# Altium schematic symbol library Schlib1.SchLib: 49 symbols
Pins are listed as number, name and electrical type; pins without a type are passive.

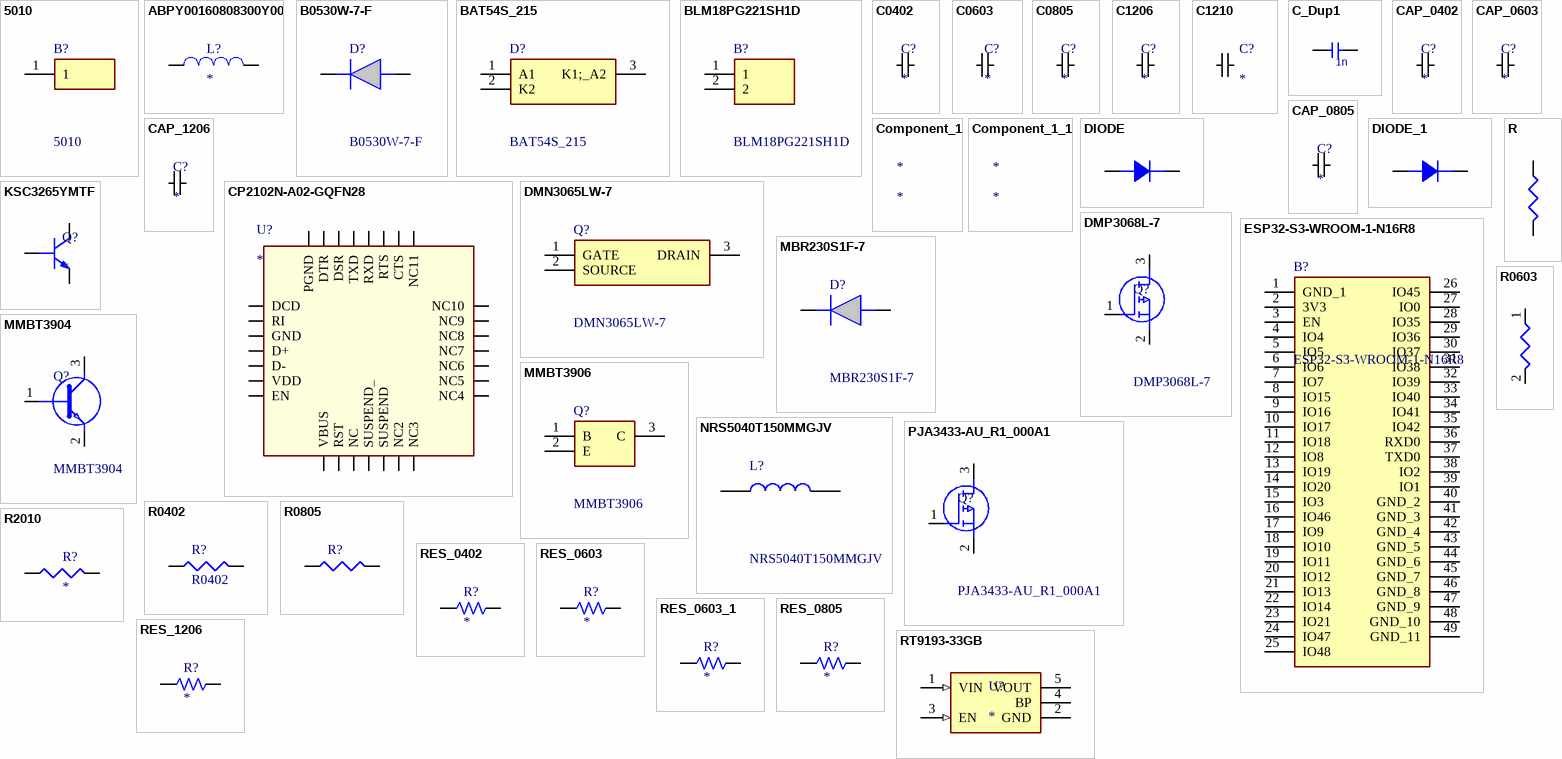
[diagram p0: symbols 5010 to RT9193-33GB]

## 5010
designator B?
KEYSTONE - 5010 - TEST POINT, PCB, THROUGH HOLE; Manufacturer_Name: Keystone Electronics; Geometry.Height: 8.28mm; Manufacturer_Part_Number: 5010; Mouser Part Number: 534-5010; Mouser Price/Stock: https://www.mouser.co.uk/ProductDetail/Keystone-Electronics/5010?qs=qOqV1E1P08SzD%252BWfk1wMXQ%3D%3D; Arrow Part Number: 5010; Arrow Price/Stock: https://www.arrow.com/en/products/5010/keystone-electronics?region=europe; Datasheet Link: http://www.farnell.com/datasheets/1703983.pdf
footprint 5010
pins: 1

## ABPY00160808300Y00
designator L?
Ferrite Beads 30Ohms RDC=0.03Ohms 3000mA AEC-Q200; Impedance @ 100MHz: 30
footprint ABPY00160808300Y00 (Chip Inductor, 2-Leads, Body 1.60x0.80mm, IPC Medium Density)
pins: 1, 2

## B0530W-7-F
designator D?
Diode Schottky 30V 0.5A 2Pin SOD123 Diodes Inc B0530W-7-F, SMT Schottky Diode, 30V 500mA, 2-Pin SOD-123; Manufacturer_Name: Diodes Incorporated; Geometry.Height: 1.45mm; Manufacturer_Part_Number: B0530W-7-F; Mouser Part Number: 621-B0530W-F; Mouser Price/Stock: https://www.mouser.co.uk/ProductDetail/Diodes-Incorporated/B0530W-7-F?qs=r3fpmNqpta3e9fGIJHX0aw%3D%3D; Arrow Part Number: B0530W-7-F; Arrow Price/Stock: https://www.arrow.com/en/products/b0530w-7-f/diodes-incorporated; Datasheet Link: https://www.diodes.com/assets/Datasheets/ds30139.pdf
footprint SOD3716X145N
pins: 1 K, 2 A

## BAT54S_215
designator D?
Schottky barrier diode,BAT54S 0.2A 30V NXP BAT54S,215, Dual SMT Schottky Diode, Series, 30V 200mA, 5ns, 3-Pin TO-236AB; Manufacturer_Name: Nexperia; Geometry.Height: 1.1mm; Manufacturer_Part_Number: BAT54S,215; Mouser Part Number: 771-BAT54S-T/R; Mouser Price/Stock: https://www.mouser.co.uk/ProductDetail/Nexperia/BAT54S215?qs=me8TqzrmIYVOaf3j7zH0Wg%3D%3D; Arrow Part Number: BAT54S,215; Arrow Price/Stock: https://www.arrow.com/en/products/bat54s215/nexperia?region=nac; Datasheet Link: https://assets.nexperia.com/documents/data-sheet/BAT54S.pdf
footprint SOT95P230X110-3N
pins: 1 A1, 2 K2, 3 K1;_A2

## BLM18PG221SH1D
designator B?
Murata Power Solutions Ferrite Bead (Chip Bead), 1.6 x 0.8 x 0.8mm (1608), 220 impedance at 100 MHz; Manufacturer_Name: Murata Electronics; Geometry.Height: 0.95mm; Manufacturer_Part_Number: BLM18PG221SH1D; Mouser Part Number: 81-BLM18PG221SH1D; Mouser Price/Stock: https://www.mouser.co.uk/ProductDetail/Murata-Electronics/BLM18PG221SH1D?qs=%2F%252BYoplLUB5jh6aLSaRqm2A%3D%3D; Arrow Part Number: BLM18PG221SH1D; Arrow Price/Stock: https://www.arrow.com/en/products/blm18pg221sh1d/murata-manufacturing?region=nac; Datasheet Link: http://www.murata.com/~/media/webrenewal/support/library/catalog/products/emc/emifil/c31e.ashx?la=en-gb
footprint BLM18SP221SN1B
pins: 1, 2

## C0402
designator C?
Voltage Rating: *; Tolerance: *; Package Size: *
footprint C0402
pins: 1, 2

## C0603
designator C?
footprint Cap_0603 (Chip Capacitor, 2-Leads, Body 1.80x1.00mm, IPC Medium Density)
pins: 1, 2

## C0805
designator C?
Voltage Rating: *; Tolerance: *; Package Size: *
footprint Cap_0805 (Chip Capacitor, 2-Leads, Body 2.00x1.25mm, IPC Medium Density)
pins: 1, 2

## C1206
designator C?
Voltage Rating: *; Tolerance: *; Package Size: *
footprint Cap_1206
pins: 1, 2

## C1210
designator C?
footprint C1210
pins: 1, 2

## C_Dup1
designator C?, comment 1n
TC2: 0; DIST: FLAT; PSpiceTemplate: C^@REFDES %1 %2 ?TOLERANCE|C^@REFDES| @VALUE ?IC/IC=@IC/ TC=@TC1,@TC2 ?TOLERANCE|\n.model C^@REFDES CAP C=1 DEV=@TOLERANCE%|; VOLTAGE: CMAX; CURRENT: CIMAX; KNEE: CBMAX; SLOPE: CSMAX; MAX_TEMP: CTMAX; TC1: 0; Value: 1n
footprint RAD/CK05
simulation model C_Dup1
pins: 1, 2

## CAP_0402
designator C?
Voltage Rating: *; Tolerance: *; Package Size: CAP_0402
footprint Cap_0402
footprint Cap_0402
pins: 1, 2

## CAP_0603
designator C?
Voltage Rating: *; Tolerance: *; Package Size: CAP_0603
footprint Cap_0603 (Chip Capacitor, 2-Leads, Body 1.80x1.00mm, IPC Medium Density)
pins: 1, 2

## CAP_0805
designator C?
Voltage Rating: *; Tolerance: *; Package Size: CAP_0805; Capacitance: *
footprint Cap_0805 (Chip Capacitor, 2-Leads, Body 2.00x1.25mm, IPC Medium Density)
pins: 1, 2

## CAP_1206
designator C?
Voltage Rating: *; Tolerance: *; Package Size: CAP_1206
footprint Cap_0402
pins: 1, 2

## Component_1
designator *

## Component_1_1
designator *

## CP2102N-A02-GQFN28
designator U?
USB Interface IC USBXpress - USB to UART Bridge
footprint CP2102N-A02-GQFN28 (QFN, 28-Leads, Body 5.00x5.00mm, Pitch 0.50mm, Thermal Pad 3.35x3.35mm, IPC Medium Density)
pins: 1 DCD, 2 RI, 3 GND, 4 D+, 5 D-, 6 VDD, 7 EN, 8 VBUS, 9 RST, 10 NC, 11 SUSPEND_, 12 SUSPEND, 13 NC2, 14 NC3, 15 NC4, 16 NC5, 17 NC6, 18 NC7, 19 NC8, 20 NC9, 21 NC10, 22 NC11, 23 CTS, 24 RTS, 25 RXD, 26 TXD, 27 DSR, 28 DTR, 29 PGND

## DIODE
designator D?
pins: 1 K, 2 A

## DIODE_1
designator D?
pins: 1 K, 2 A

## DMN3065LW-7
designator Q?
Diodes Inc DMN3065LW-7 N-channel MOSFET Transistor, 4 A, 30 V, 3-Pin SOT-323; Manufacturer_Name: Diodes Incorporated; Geometry.Height: 1mm; Manufacturer_Part_Number: DMN3065LW-7; Mouser Part Number: 621-DMN3065LW7; Mouser Price/Stock: https://www.mouser.co.uk/ProductDetail/Diodes-Incorporated/DMN3065LW-7?qs=JtunSoW0QGGjls1HwhS7gQ%3D%3D; Arrow Part Number: DMN3065LW-7; Arrow Price/Stock: https://www.arrow.com/en/products/dmn3065lw-7/diodes-incorporated; Datasheet Link: https://www.diodes.com/assets/Datasheets/DMN3065LW.pdf
footprint SOT65P210X100-3N
pins: 1 GATE, 2 SOURCE, 3 DRAIN

## DMP3068L-7
designator Q?
MOSFET 30V P-Ch Enh Mode 72mOhm -10V -3.9A; Manufacturer_Name: Diodes Incorporated; Geometry.Height: 1.15mm; Manufacturer_Part_Number: DMP3068L-7; Mouser Part Number: 621-DMP3068L-7; Mouser Price/Stock: https://www.mouser.co.uk/ProductDetail/Diodes-Incorporated/DMP3068L-7?qs=BvpHGKeVh3rIffE3x2yGSw%3D%3D; Arrow Part Number: DMP3068L-7; Arrow Price/Stock: https://www.arrow.com/en/products/dmp3068l-7/diodes-incorporated; Datasheet Link: https://www.diodes.com/assets/Datasheets/DMP3068L.pdf
footprint SOT96P240X115-3N
pins: 1 G, 2 S, 3 D

## ESP32-S3-WROOM-1-N16R8
designator B?
Multiprotocol Modules SMD Module, ESP32-S3R8, 3.3V, 8 MB Octal PSRAM Die, 16 MB Quad SPI Flash, PCB Antenna; Manufacturer_Name: Espressif Systems; Geometry.Height: 3.25mm; Manufacturer_Part_Number: ESP32-S3-WROOM-1-N16R8; Mouser Part Number: 356-ESP32S3WRM1N16R8; Mouser Price/Stock: https://www.mouser.co.uk/ProductDetail/Espressif-Systems/ESP32-S3-WROOM-1-N16R8?qs=Li%252BoUPsLEnvQc9gW6AMhZg%3D%3D; Arrow Part Number: *; Arrow Price/Stock: *; Datasheet Link: https://www.espressif.com/sites/default/files/documentation/esp32-s3-wroom-1_wroom-1u_datasheet_en.pdf
footprint ESP32S3WROOM1N16R8
pins: 1 GND_1, 2 3V3, 3 EN, 4 IO4, 5 IO5, 6 IO6, 7 IO7, 8 IO15, 9 IO16, 10 IO17, 11 IO18, 12 IO8, 13 IO19, 14 IO20, 15 IO3, 16 IO46, 17 IO9, 18 IO10, 19 IO11, 20 IO12, 21 IO13, 22 IO14, 23 IO21, 24 IO47, 25 IO48, 26 IO45, 27 IO0, 28 IO35, 29 IO36, 30 IO37, 31 IO38, 32 IO39, 33 IO40, 34 IO41, 35 IO42, 36 RXD0, 37 TXD0, 38 IO2, 39 IO1, 40 GND_2, 41 GND_3, 42 GND_4, 43 GND_5, 44 GND_6, 45 GND_7, 46 GND_8, 47 GND_9, 48 GND_10, 49 GND_11

## KSC3265YMTF
designator Q?
Bipolar Transistors - BJT NPN Epitaxial Transistor
footprint KSC3265YMTF (SOT23, 3-Leads, Body 2.90x2.40mm, Pitch 0.95mm, IPC Medium Density)
pins: 1 B, 2 E, 3 C

## MBR230S1F-7
designator D?
Diodes Inc MBR230S1F-7, SMT Schottky Barrier Diode, 30V 2A, 2-Pin SOD123F; Manufacturer_Name: Diodes Incorporated; Geometry.Height: 1.15mm; Manufacturer_Part_Number: MBR230S1F-7; Mouser Part Number: 621-MBR230S1F-7; Mouser Price/Stock: https://www.mouser.co.uk/ProductDetail/Diodes-Incorporated/MBR230S1F-7?qs=5V6w%252Be2aIqaf4rGxjeeHeQ%3D%3D; Arrow Part Number: MBR230S1F-7; Arrow Price/Stock: https://www.arrow.com/en/products/mbr230s1f-7/diodes-incorporated?region=nac; Datasheet Link: https://www.diodes.com/assets/Datasheets/MBR230S1F.pdf
footprint SODFL3518X115N
pins: 1 K, 2 A

## MMBT3904
designator Q?
Transistor GP BJT NPN 40V 0.2A SOT23 Fairchild MMBT3904 NPN Bipolar Transistor, 0.2 A, 40 V, 3-Pin SOT-23; Manufacturer_Name: onsemi; Geometry.Height: 1.2mm; Manufacturer_Part_Number: MMBT3904; Mouser Part Number: 512-MMBT3904; Mouser Price/Stock: https://www.mouser.co.uk/ProductDetail/onsemi-Fairchild/MMBT3904?qs=UMEuL5FsraCg3xKjS4uBJQ%3D%3D; Arrow Part Number: MMBT3904; Arrow Price/Stock: https://www.arrow.com/en/products/mmbt3904/on-semiconductor; Datasheet Link: https://media.digikey.com/pdf/Data%20Sheets/ON%20Semiconductor%20PDFs/2N3904,MMBT3904,PZT3904.pdf
footprint SOT95P240X120-3N
pins: 1 B, 2 E, 3 C

## MMBT3906
designator Q?
Transistor GP BJT PNP 40V 0.2A SOT23 Fairchild MMBT3906 PNP Bipolar Transistor, 0.2 A, 40 V, 3-Pin SOT-23; Manufacturer_Name: onsemi; Geometry.Height: 1.2mm; Manufacturer_Part_Number: MMBT3906; Mouser Part Number: 512-MMBT3906; Mouser Price/Stock: https://www.mouser.co.uk/ProductDetail/onsemi-Fairchild/MMBT3906?qs=UMEuL5FsraBPiZDsobnR3A%3D%3D; Arrow Part Number: MMBT3906; Arrow Price/Stock: https://www.arrow.com/en/products/mmbt3906/on-semiconductor; Datasheet Link: http://akizukidenshi.com/download/ds/fairchild/2N3904_MMBT3904_PZT3904.pdf
footprint SOT95P240X120-3N
pins: 1 B, 2 E, 3 C

## NRS5040T150MMGJV
designator L?
Fixed Inductors 5040 15uH 104mOhms +/-20%Tol 1.7A Q200; Manufacturer_Name: TAIYO YUDEN; Geometry.Height: 4mm; Manufacturer_Part_Number: NRS5040T150MMGJV; Mouser Part Number: 963-NRS5040T150MMGJV; Mouser Price/Stock: https://www.mouser.co.uk/ProductDetail/Taiyo-Yuden/NRS5040T150MMGJV?qs=4aVxpR%2FL9VKgJej5JymDSQ%3D%3D; Arrow Part Number: *; Arrow Price/Stock: *; Datasheet Link: https://www.yuden.co.jp/productdata/catalog/wound04_hq_e.pdf
footprint INDPM4949X400N
pins: 1, 2

## PJA3433-AU_R1_000A1
designator Q?
MOSFET 30V P-Channel Enhancement Mode MOSFET-ESD Protected; Manufacturer_Name: PANJIT International Inc; Geometry.Height: 1.1mm; Manufacturer_Part_Number: PJA3433-AU_R1_000A1; Mouser Part Number: 241-PJA3433AUR1000A1; Mouser Price/Stock: https://www.mouser.co.uk/ProductDetail/Panjit/PJA3433-AU_R1_000A1?qs=Rp5uXu7WBW9Hc6R1Md30gw%3D%3D; Arrow Part Number: *; Arrow Price/Stock: *; Datasheet Link: https://www.panjit.com.tw/upload/datasheet/PJA3433-AU.pdf
footprint SOT95P240X110-3N
pins: 1 G, 2 S, 3 D

## R
designator R?
pins: 1, 2

## R0402
designator R?
smd r0402; voltage Rating: *
footprint R0402
pins: 1, 2

## R0603
designator R?
smd r0603; voltage Rating: *
footprint RES_0603
pins: 1, 2

## R0805
designator R?
voltage Rating: *
footprint RES_0805
pins: 1, 2

## R2010
designator R?
voltage Rating: *
footprint R2010
pins: 1, 2

## RES_0402
designator R?
Power Rating: *; Tolerance: *; Package Size: RES_0402
footprint RES_0402
pins: 1, 2

## RES_0603
designator R?
Power Rating: *; Tolerance: *; Package Size: *
footprint RES_0603
pins: 1, 2

## RES_0603_1
designator R?
Power Rating: *; Tolerance: *; Package Size: RES_0603
footprint RES_0603
pins: 1, 2

## RES_0805
designator R?
Power Rating: *; Tolerance: *; Package Size: RES_0805
footprint RES_0805
pins: 1, 2

## RES_1206
designator R?
Power Rating: *; Tolerance: *; Package Size: RES_1206
footprint RES_1206
pins: 1, 2

## RT9193-33GB
designator U?
Linear Voltage Regulator IC Positive Fixed 1 Output 300mA TSOT-23-5; MP: RT9193-33GB; MF: Richtek USA; SnapEDA_Link: https://www.snapeda.com/parts/RT9193-33GB/Richtek+USA+Inc./view-part/?ref=snap; Package: SOT-23-5 Richtek; Check_prices: https://www.snapeda.com/parts/RT9193-33GB/Richtek+USA+Inc./view-part/?ref=eda; Purchase-URL: https://pricing.snapeda.com/search/part/RT9193-33GB/?ref=eda; Digi-Key_Part_Number: 1028-1014-2-ND; Value: *
footprint SOT94P279X129-5N
pins: 1 VIN (in), 2 GND (power), 3 EN (in), 4 BP, 5 VOUT

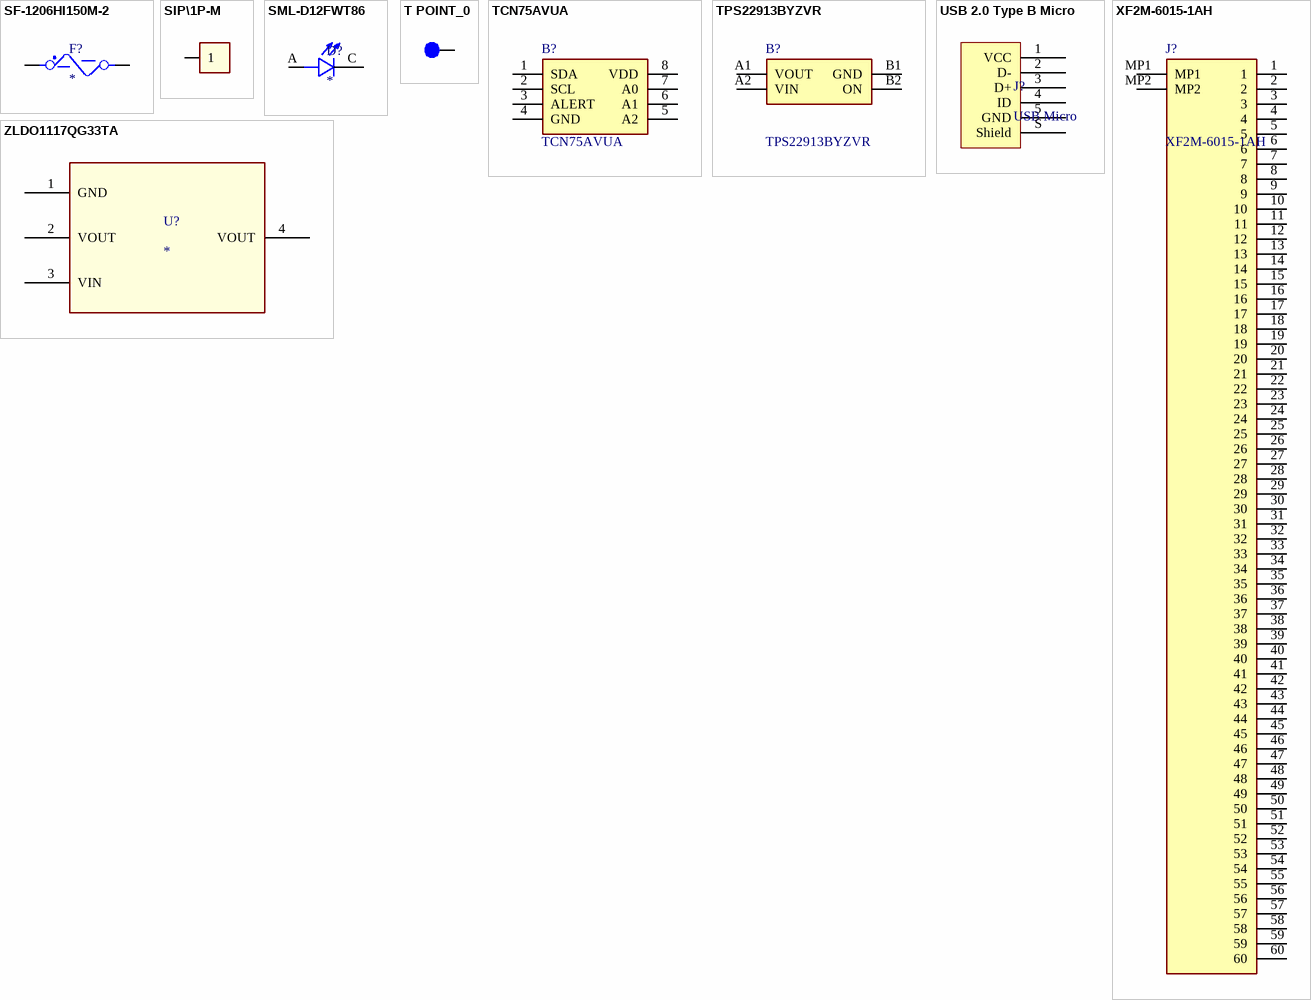
[diagram p1: symbols SF-1206HI150M-2 to ZLDO1117QG33TA]

## SF-1206HI150M-2
designator F?
Surface Mount Fuses 1206 High-Inrush Multilayer 1.5A
footprint SF-1206HI150M-2 (Surface Mount Fuse, 2-Leads, Body 3.20x1.60mm, IPC Medium Density)
pins: 1, 2

## SIP\1P-M
designator J?
footprint SIP\6P
pins: 1

## SML-D12FWT86
designator D?
Green 565nm LED Indication - Discrete 2.2V 0603 (1608 Metric); MP: SML-D12FWT86; MF: Rohm; Price: None; Availability: In Stock; Package: 0603 Rohm; SnapEDA_Link: https://www.snapeda.com/parts/SML-D12FWT86/Rohm/view-part/?ref=snap; Check_prices: https://www.snapeda.com/parts/SML-D12FWT86/Rohm/view-part/?ref=eda; Value: *; Purchase-URL: https://pricing.snapeda.com/search/part/SML-D12FWT86/?ref=eda
footprint LED_SML-D12FWT86
pins: A, C

## T POINT_0
designator TP?  (value not drawn)
Filename: 5495
pins: 1

## TCN75AVUA
designator B?
Temperature Sensor 12bit I2C MSOP8; Manufacturer_Name: Microchip; Geometry.Height: 1.1mm; Manufacturer_Part_Number: TCN75AVUA; Mouser Part Number: 579-TCN75AVUA; Mouser Price/Stock: https://www.mouser.co.uk/ProductDetail/Microchip-Technology/TCN75AVUA?qs=RnzODY3cU8vabhxE%2FvmlQQ%3D%3D; Arrow Part Number: TCN75AVUA; Arrow Price/Stock: https://www.arrow.com/en/products/tcn75avua/microchip-technology?region=nac; Datasheet Link: http://ww1.microchip.com/downloads/en/DeviceDoc/21935D.pdf
footprint SOP65P490X110-8N
pins: 1 SDA, 2 SCL, 3 ALERT, 4 GND, 5 A2, 6 A1, 7 A0, 8 VDD

## TPS22913BYZVR
designator B?
5.5V, 2A, 61m Load Switch With Quick Output Discharge and Reverse Current Protection; Manufacturer_Name: Texas Instruments; Geometry.Height: 0.5mm; Manufacturer_Part_Number: TPS22913BYZVR; Mouser Part Number: 595-TPS22913BYZVR; Mouser Price/Stock: https://www.mouser.co.uk/ProductDetail/Texas-Instruments/TPS22913BYZVR?qs=luhu8ESwuKwDVhjL0zYhJw%3D%3D; Arrow Part Number: TPS22913BYZVR; Arrow Price/Stock: https://www.arrow.com/en/products/tps22913byzvr/texas-instruments; Datasheet Link: http://www.ti.com/lit/gpn/tps22913
footprint BGA4C50P2X2_89X89X50
pins: A1 VOUT, A2 VIN, B1 GND, B2 ON

## USB 2.0 Type B Micro
designator J?, comment USB Micro
USB Connectors; MP: 10118194-0001LF; MF: Amphenol FCI; Value: *
footprint USB  FCI 10118193-0001LF (USB 2.0 Type B Micro)
pins: 1 VCC, 2 D-, 3 D+, 4 ID, 5 GND, S Shield

## XF2M-6015-1AH
designator J?
FFC & FPC Connectors .5mm Rotary BackLock SMT Dual 60P Adhesv.; Manufacturer_Name: Omron Electronics; Geometry.Height: 3.2mm; Manufacturer_Part_Number: XF2M-6015-1AH; Mouser Part Number: 653-XF2M-6015-1AH; Mouser Price/Stock: https://www.mouser.co.uk/ProductDetail/Omron-Electronics/XF2M-6015-1AH?qs=Qs5cJLxP1YCnliiAn0jxYg%3D%3D; Arrow Part Number: XF2M-6015-1AH; Arrow Price/Stock: https://www.arrow.com/en/products/xf2m-6015-1ah/omron?region=nac; Datasheet Link: https://www.omron.com/ecb/products/pdf/en-xf2m.pdf
footprint XF2M60151AH
pins: 1, 2, 3, 4, 5, 6, 7, 8, 9, 10, 11, 12, 13, 14, 15, 16, 17, 18, 19, 20, 21, 22, 23, 24, 25, 26, 27, 28, 29, 30, 31, 32, 33, 34, 35, 36, 37, 38, 39, 40, 41, 42, 43, 44, 45, 46, 47, 48, 49, 50, 51, 52, 53, 54, 55, 56, 57, 58, 59, 60, MP1, MP2

## ZLDO1117QG33TA
designator U?
A low dropout, high speed, positive adjustable or fixed-mode (3.3V) / regulator with 1A output current capability.
footprint ZLDO1117QG33TA (SOT223, 4-Leads, Body 6.50x7.00mm (avg), Pitch 2.30mm, IPC Medium Density)
pins: 1 GND, 2 VOUT, 3 VIN, 4 VOUT